# Altium footprint library Inductor_THT.PcbLib: 269 footprints (part 2 of 17)
Each footprint in its own frame and in the unit in brackets; x right, y up, seen from the top. Pads: shape width x height; smd on the part's side, far side on the other; paste and mask are expansions set on the pad; w line width, h text height; cw(c..) or ccw(c..) is an arc to the next point about the centre after c.
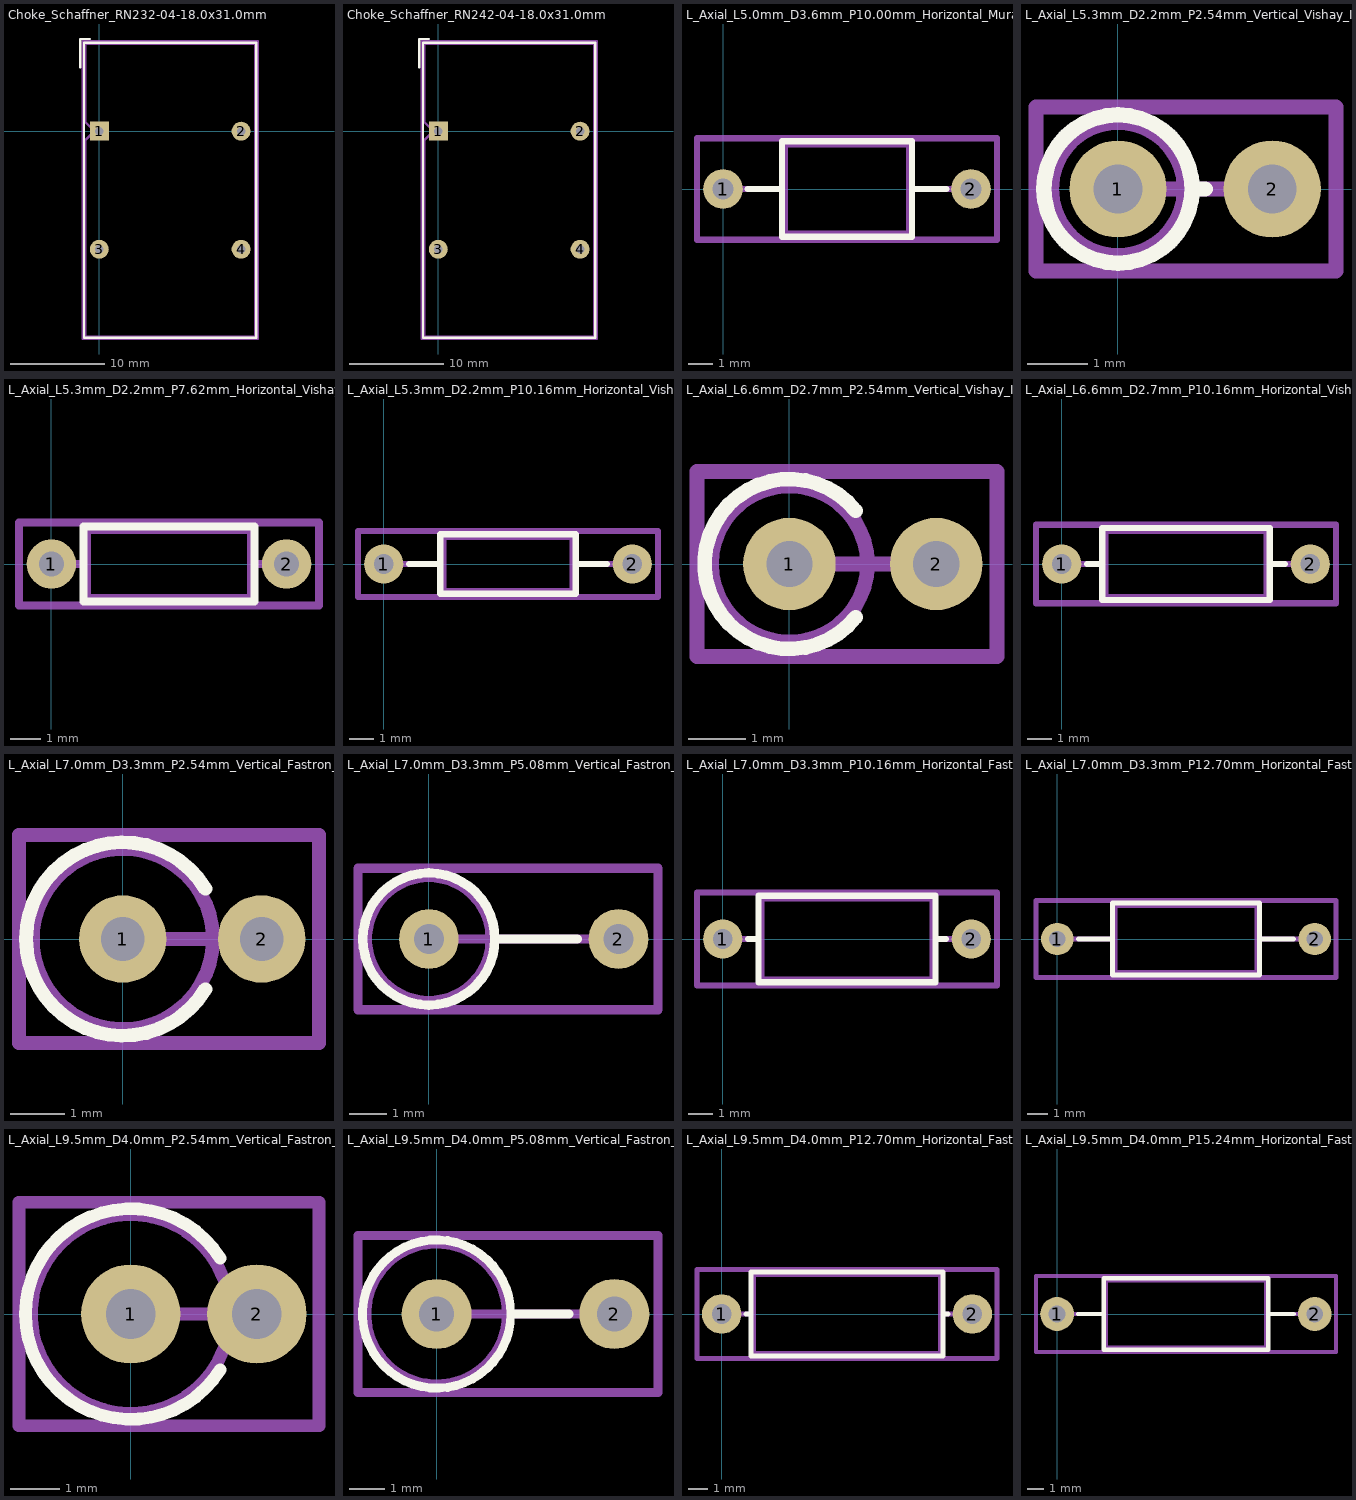
[diagram p1: the footprints below, top view; thin cyan lines are the x and y axes]

## Choke_Schaffner_RN232-04-18.0x31.0mm [mm]
pads (4):
  rect 2x2 hole 0.9: 1(0,0)
  round 2 hole 0.9: 2(15,0) 3(0,-12.5) 4(15,-12.5)
F.SilkS:
  lines w0.254: -2,6.75 -2,9.75 -1,9.75 ; -1.62,-21.87 16.62,-21.87 16.62,9.37 -1.62,9.37 -1.62,-21.87
Top Assembly:
  lines w0.254: -1.5,-21.75 16.5,-21.75 16.5,9.25 -1.5,9.25 -1.5,1 -0.5,0 -1.5,-1 -1.5,-21.75
  text "'.Designator'" at 3.453,-7.09 h1
Top Courtyard:
  lines w0.254: -1.75,-22 16.75,-22 16.75,9.5 -1.75,9.5 -1.75,-22
Top Designator:
  text ".Designator" at -0.243,-6.633 h1.52

## Choke_Schaffner_RN242-04-18.0x31.0mm [mm]
pads (4):
  rect 2x2 hole 0.9: 1(0,0)
  round 2 hole 0.9: 2(15,0) 3(0,-12.5) 4(15,-12.5)
F.SilkS:
  lines w0.254: -2,6.75 -2,9.75 -1,9.75 ; -1.62,-21.87 16.62,-21.87 16.62,9.37 -1.62,9.37 -1.62,-21.87
Top Assembly:
  lines w0.254: -1.5,-21.75 16.5,-21.75 16.5,9.25 -1.5,9.25 -1.5,1 -0.5,0 -1.5,-1 -1.5,-21.75
  text "'.Designator'" at 3.453,-7.09 h1
Top Courtyard:
  lines w0.254: -1.75,-22 16.75,-22 16.75,9.5 -1.75,9.5 -1.75,-22
Top Designator:
  text ".Designator" at -0.243,-6.633 h1.52

## L_Axial_L5.0mm_D3.6mm_P10.00mm_Horizontal_Murata_BL01RN1A2A2 [mm]
pads (2):
  round 1.6 hole 0.85: 1(0,0)
  rrect100% 1.6x1.6 hole 0.85: 2(10,0)
F.SilkS:
  lines w0.254: 1,0 2.38,0 ; 7.62,0 9,0 ; 2.38,-1.92 2.38,1.92 7.62,1.92 7.62,-1.92 2.38,-1.92
Top Assembly:
  lines w0.254: 0,0 2.5,0 ; 7.5,0 10,0 ; 2.5,-1.8 2.5,1.8 7.5,1.8 7.5,-1.8 2.5,-1.8
  text "'.Designator'" at 0.953,-0.84 h1
Top Courtyard:
  lines w0.254: -1.05,-2.05 -1.05,2.05 11.05,2.05 11.05,-2.05 -1.05,-2.05
Top Designator:
  text ".Designator" at -2.618,-0.508 h1.52

## L_Axial_L5.3mm_D2.2mm_P2.54mm_Vertical_Vishay_IM-1 [mm]
pads (2):
  round 1.6 hole 0.8: 1(0,0) 2(2.54,0)
F.SilkS:
  circle w0.254: c0,0 r1.22
  lines w0.254: 1.22,0 1.44,0
Top Assembly:
  circle w0.254: c0,0 r1.1
  lines w0.254: 0,0 2.54,0
  text "'.Designator'" at -2.777,1.38 h1
Top Courtyard:
  lines w0.254: -1.35,-1.35 3.59,-1.35 3.59,1.35 -1.35,1.35 -1.35,-1.35
Top Designator:
  text ".Designator" at -6.498,0.042 h1.52
3D body "L_Axial_L5.3mm_D2.2mm_P2.54mm_Vertical_Vishay_IM-1.step": height 7.15, standoff -3, extent -1.091,-1.098 2.788,1.098

## L_Axial_L5.3mm_D2.2mm_P7.62mm_Horizontal_Vishay_IM-1 [mm]
pads (2):
  round 1.6 hole 0.8: 1(0,0) 2(7.62,0)
F.SilkS:
  lines w0.254: 1.04,-1.22 6.58,-1.22 6.58,1.22 1.04,1.22 1.04,-1.22
Top Assembly:
  lines w0.254: 0,0 1.16,0 ; 6.46,0 7.62,0 ; 1.16,-1.1 6.46,-1.1 6.46,1.1 1.16,1.1 1.16,-1.1
  text "'.Designator'" at -0.237,-0.84 h1
Top Courtyard:
  lines w0.254: -1.05,-1.35 8.67,-1.35 8.67,1.35 -1.05,1.35 -1.05,-1.35
Top Designator:
  text ".Designator" at -3.808,-0.508 h1.52
3D body "L_Axial_L5.3mm_D2.2mm_P7.62mm_Horizontal_Vishay_IM-1.step": height 2.3, standoff -3, extent -0.248,-1.098 7.868,1.098

## L_Axial_L5.3mm_D2.2mm_P10.16mm_Horizontal_Vishay_IM-1 [mm]
pads (2):
  round 1.6 hole 0.8: 1(0,0) 2(10.16,0)
F.SilkS:
  lines w0.254: 1.04,0 2.31,0 ; 7.85,0 9.12,0 ; 2.31,-1.22 7.85,-1.22 7.85,1.22 2.31,1.22 2.31,-1.22
Top Assembly:
  lines w0.254: 0,0 2.43,0 ; 7.73,0 10.16,0 ; 2.43,-1.1 7.73,-1.1 7.73,1.1 2.43,1.1 2.43,-1.1
  text "'.Designator'" at 1.033,-0.84 h1
Top Courtyard:
  lines w0.254: -1.05,-1.35 11.21,-1.35 11.21,1.35 -1.05,1.35 -1.05,-1.35
Top Designator:
  text ".Designator" at -2.538,-0.508 h1.52
3D body "L_Axial_L5.3mm_D2.2mm_P10.16mm_Horizontal_Vishay_IM-1.step": height 2.3, standoff -3, extent -0.248,-1.098 10.408,1.098

## L_Axial_L6.6mm_D2.7mm_P2.54mm_Vertical_Vishay_IM-2 [mm]
pads (2):
  round 1.6 hole 0.8: 1(0,0) 2(2.54,0)
F.SilkS:
  lines w0.254: 1.147,-0.92 cw(c0,0) 1.147,0.92
Top Assembly:
  circle w0.254: c0,0 r1.35
  lines w0.254: 0,0 2.54,0
  text "'.Designator'" at -2.777,1.63 h1
Top Courtyard:
  lines w0.254: -1.6,-1.6 3.59,-1.6 3.59,1.6 -1.6,1.6 -1.6,-1.6
Top Designator:
  text ".Designator" at -6.498,0.042 h1.52
3D body "L_Axial_L6.6mm_D2.7mm_P2.54mm_Vertical_Vishay_IM-2.step": height 8.45, standoff -3, extent -1.339,-1.347 2.788,1.347

## L_Axial_L6.6mm_D2.7mm_P10.16mm_Horizontal_Vishay_IM-2 [mm]
pads (2):
  round 1.6 hole 0.8: 1(0,0) 2(10.16,0)
F.SilkS:
  lines w0.254: 1.04,0 1.66,0 ; 8.5,0 9.12,0 ; 1.66,-1.47 8.5,-1.47 8.5,1.47 1.66,1.47 1.66,-1.47
Top Assembly:
  lines w0.254: 0,0 1.78,0 ; 8.38,0 10.16,0 ; 1.78,-1.35 8.38,-1.35 8.38,1.35 1.78,1.35 1.78,-1.35
  text "'.Designator'" at 1.033,-0.84 h1
Top Courtyard:
  lines w0.254: -1.05,-1.6 11.21,-1.6 11.21,1.6 -1.05,1.6 -1.05,-1.6
Top Designator:
  text ".Designator" at -2.538,-0.508 h1.52
3D body "L_Axial_L6.6mm_D2.7mm_P10.16mm_Horizontal_Vishay_IM-2.step": height 2.8, standoff -3, extent -0.248,-1.347 10.408,1.347

## L_Axial_L7.0mm_D3.3mm_P2.54mm_Vertical_Fastron_MICC [mm]
pads (2):
  round 1.6 hole 0.8: 1(0,0) 2(2.54,0)
F.SilkS:
  lines w0.254: 1.512,-0.92 cw(c0,0) 1.512,0.92
Top Assembly:
  circle w0.254: c0,0 r1.65
  lines w0.254: 0,0 2.54,0
  text "'.Designator'" at -2.777,1.93 h1
Top Courtyard:
  lines w0.254: -1.9,-1.9 3.59,-1.9 3.59,1.9 -1.9,1.9 -1.9,-1.9
Top Designator:
  text ".Designator" at -6.498,0.042 h1.52
3D body "L_Axial_L7.0mm_D3.3mm_P2.54mm_Vertical_Fastron_MICC.step": height 8.85, standoff -3, extent -1.65,-1.647 2.788,1.647

## L_Axial_L7.0mm_D3.3mm_P5.08mm_Vertical_Fastron_MICC [mm]
pads (2):
  round 1.6 hole 0.8: 1(0,0) 2(5.08,0)
F.SilkS:
  circle w0.254: c0,0 r1.77
  lines w0.254: 1.77,0 3.98,0
Top Assembly:
  circle w0.254: c0,0 r1.65
  lines w0.254: 0,0 5.08,0
  text "'.Designator'" at -1.507,1.93 h1
Top Courtyard:
  lines w0.254: -1.9,-1.9 6.14,-1.9 6.14,1.9 -1.9,1.9 -1.9,-1.9
Top Designator:
  text ".Designator" at -5.413,0.042 h1.52
3D body "L_Axial_L7.0mm_D3.3mm_P5.08mm_Vertical_Fastron_MICC.step": height 8.85, standoff -3, extent -1.65,-1.647 5.328,1.647

## L_Axial_L7.0mm_D3.3mm_P10.16mm_Horizontal_Fastron_MICC [mm]
pads (2):
  round 1.6 hole 0.8: 1(0,0) 2(10.16,0)
F.SilkS:
  lines w0.254: 1.04,0 1.46,0 ; 8.7,0 9.12,0 ; 1.46,-1.77 8.7,-1.77 8.7,1.77 1.46,1.77 1.46,-1.77
Top Assembly:
  lines w0.254: 0,0 1.58,0 ; 8.58,0 10.16,0 ; 1.58,-1.65 8.58,-1.65 8.58,1.65 1.58,1.65 1.58,-1.65
  text "'.Designator'" at 1.033,-0.84 h1
Top Courtyard:
  lines w0.254: -1.05,-1.9 11.21,-1.9 11.21,1.9 -1.05,1.9 -1.05,-1.9
Top Designator:
  text ".Designator" at -2.538,-0.508 h1.52
3D body "L_Axial_L7.0mm_D3.3mm_P10.16mm_Horizontal_Fastron_MICC.step": height 3.4, standoff -3, extent -0.248,-1.647 10.408,1.647

## L_Axial_L7.0mm_D3.3mm_P12.70mm_Horizontal_Fastron_MICC [mm]
pads (2):
  round 1.6 hole 0.8: 1(0,0) 2(12.7,0)
F.SilkS:
  lines w0.254: 1.04,0 2.73,0 ; 9.97,0 11.66,0 ; 2.73,-1.77 9.97,-1.77 9.97,1.77 2.73,1.77 2.73,-1.77
Top Assembly:
  lines w0.254: 0,0 2.85,0 ; 9.85,0 12.7,0 ; 2.85,-1.65 9.85,-1.65 9.85,1.65 2.85,1.65 2.85,-1.65
  text "'.Designator'" at 2.303,-0.84 h1
Top Courtyard:
  lines w0.254: -1.05,-1.9 13.75,-1.9 13.75,1.9 -1.05,1.9 -1.05,-1.9
Top Designator:
  text ".Designator" at -1.268,-0.508 h1.52
3D body "L_Axial_L7.0mm_D3.3mm_P12.70mm_Horizontal_Fastron_MICC.step": height 3.4, standoff -3, extent -0.248,-1.647 12.948,1.647

## L_Axial_L9.5mm_D4.0mm_P2.54mm_Vertical_Fastron_SMCC [mm]
pads (2):
  round 2 hole 1: 1(0,0) 2(2.54,0)
F.SilkS:
  lines w0.254: 1.8,-1.12 cw(c0,0) 1.8,1.12
Top Assembly:
  circle w0.254: c0,0 r2
  lines w0.254: 0,0 2.54,0
  text "'.Designator'" at -2.777,2.28 h1
Top Courtyard:
  lines w0.254: -2.25,-2.25 3.79,-2.25 3.79,2.25 -2.25,2.25 -2.25,-2.25
Top Designator:
  text ".Designator" at -6.498,0.042 h1.52
3D body "L_Axial_L9.5mm_D4.0mm_P2.54mm_Vertical_Fastron_SMCC.step": height 12.05, standoff -3, extent -2,-2 2.887,2

## L_Axial_L9.5mm_D4.0mm_P5.08mm_Vertical_Fastron_SMCC [mm]
pads (2):
  round 2 hole 1: 1(0,0) 2(5.08,0)
F.SilkS:
  circle w0.254: c0,0 r2.12
  lines w0.254: 2.12,0 3.78,0
Top Assembly:
  circle w0.254: c0,0 r2
  lines w0.254: 0,0 5.08,0
  text "'.Designator'" at -1.507,2.28 h1
Top Courtyard:
  lines w0.254: -2.25,-2.25 6.33,-2.25 6.33,2.25 -2.25,2.25 -2.25,-2.25
Top Designator:
  text ".Designator" at -5.578,0.042 h1.52
3D body "L_Axial_L9.5mm_D4.0mm_P5.08mm_Vertical_Fastron_SMCC.step": height 12.05, standoff -3, extent -2,-2 5.427,2

## L_Axial_L9.5mm_D4.0mm_P12.70mm_Horizontal_Fastron_SMCC [mm]
pads (2):
  round 2 hole 1: 1(0,0) 2(12.7,0)
F.SilkS:
  lines w0.254: 1.24,0 1.48,0 ; 11.22,0 11.46,0 ; 1.48,-2.12 11.22,-2.12 11.22,2.12 1.48,2.12 1.48,-2.12
Top Assembly:
  lines w0.254: 0,0 1.6,0 ; 11.1,0 12.7,0 ; 1.6,-2 11.1,-2 11.1,2 1.6,2 1.6,-2
  text "'.Designator'" at 2.303,-0.84 h1
Top Courtyard:
  lines w0.254: -1.25,-2.25 13.95,-2.25 13.95,2.25 -1.25,2.25 -1.25,-2.25
Top Designator:
  text ".Designator" at -1.268,-0.508 h1.52
3D body "L_Axial_L9.5mm_D4.0mm_P12.70mm_Horizontal_Fastron_SMCC.step": height 4.1, standoff -3, extent -0.347,-2 13.047,2

## L_Axial_L9.5mm_D4.0mm_P15.24mm_Horizontal_Fastron_SMCC [mm]
pads (2):
  round 2 hole 1: 1(0,0) 2(15.24,0)
F.SilkS:
  lines w0.254: 1.24,0 2.75,0 ; 12.49,0 14,0 ; 2.75,-2.12 12.49,-2.12 12.49,2.12 2.75,2.12 2.75,-2.12
Top Assembly:
  lines w0.254: 0,0 2.87,0 ; 12.37,0 15.24,0 ; 2.87,-2 12.37,-2 12.37,2 2.87,2 2.87,-2
  text "'.Designator'" at 3.573,-0.84 h1
Top Courtyard:
  lines w0.254: -1.25,-2.25 16.5,-2.25 16.5,2.25 -1.25,2.25 -1.25,-2.25
Top Designator:
  text ".Designator" at 0.007,-0.508 h1.52
3D body "L_Axial_L9.5mm_D4.0mm_P15.24mm_Horizontal_Fastron_SMCC.step": height 4.1, standoff -3, extent -0.347,-2 15.587,2